# Altium integrated library Linear Technology Power Management Switching Regulator LTC1174-LTC3901.IntLib: 2647 symbols (part 5 of 364)
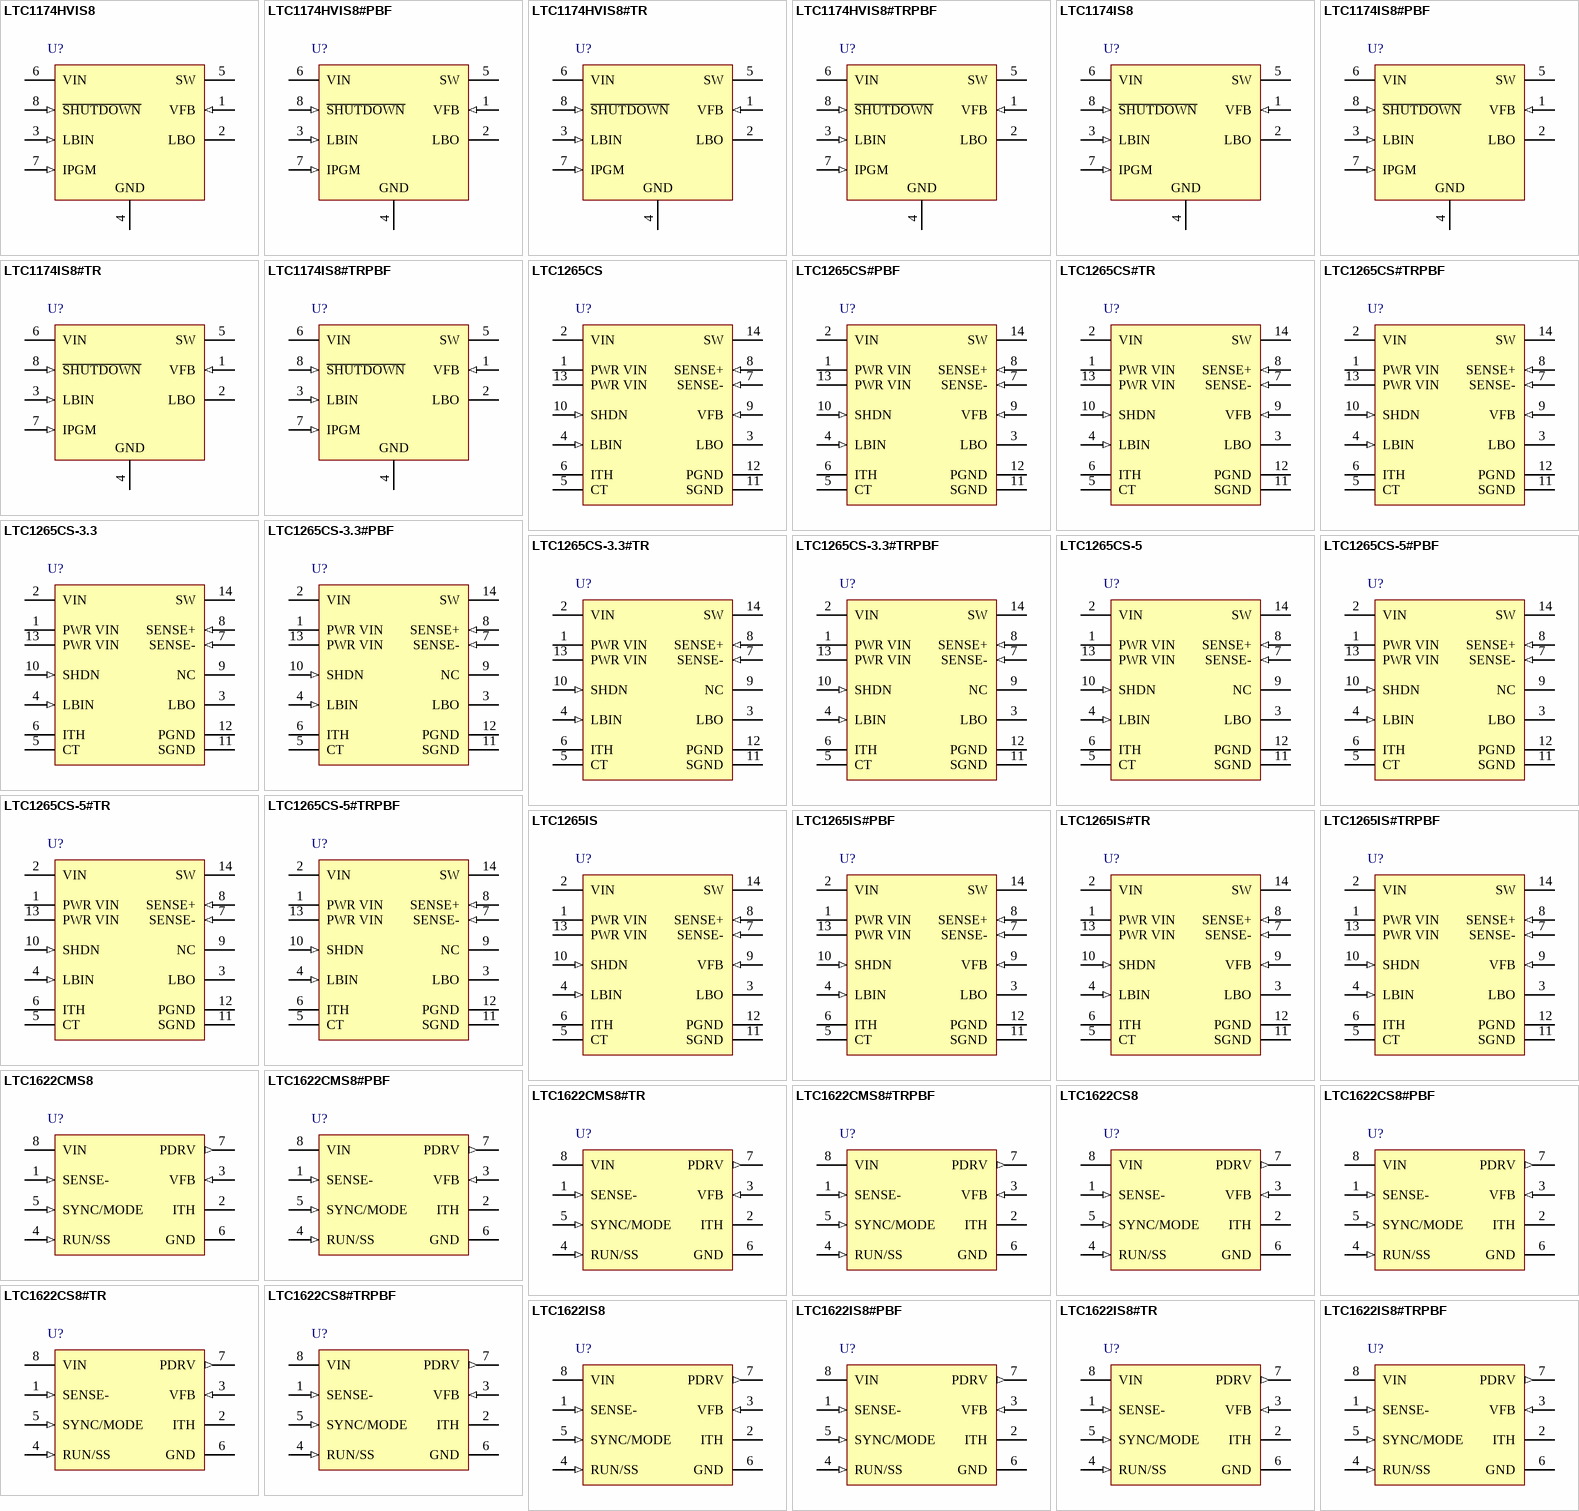
[diagram p118: symbols LTC1174HVIS8 to LTC1622IS8#TRPBF]

## LTC1265IS#TRPBF
designator U?
1.2 A, High Efficiency Step-Down DC/DC Converter, 14-pin SOIC (S-14), -40 to 85 degC, Pb-Free, Tape and Reel; Manufacturer: Linear Technology; PartNumber: LTC1265IS#TRPBF; Number of Outputs: 1; DatasheetVersion: Rev. B; PackageVersion: Rev. G, 03/2012; PackageReference: S-14; PackageDescription: 14-Pin Plastic Small Outline, Body 8.65 x 3.9 mm, Pitch 1.27 mm; Supplier 1: Digi-Key; Supplier Part Number 1: LTC1265IS#TRPBF-ND; Packing: Tape and Reel; RoHS: TRUE; Mounting Technology: Surface Mount; ComponentLink1Description: Manufacturer URL; ComponentLink1URL: http://www.linear.com/; ComponentLink2Description: Datasheet; ComponentLink2URL: http://cds.linear.com/docs/en/datasheet/126535fb.pdf; ComponentLink3Description: Package Specification; ComponentLink3URL: http://cds.linear.com/docs/en/packaging/05081610_G_S14.pdf
footprint LT-S-14_N (SOIC, 14-Leads, Body 8.7x4mm, Pitch 1.27mm, IPC Medium Density)
footprint LT-S-14_L (SOIC, 14-Leads, Body 8.7x4mm, Pitch 1.27mm, IPC High Density)
footprint LT-S-14_M (SOIC, 14-Leads, Body 8.7x4mm, Pitch 1.27mm, IPC Low Density)
pins: 1 PWR VIN (power) "Supply for the Power MOSFET and its Driver. Must decouple this pin properly to ground. Must always tie Pins 1 and 13 together.", 2 VIN (power) "Main Supply for All the Control Circuitry in the LTC1265.", 3 LBO (hiz) "Open-Drain Output of the Low-Battery Comparator. This pin will sink current when Pin 4 (LBIN) goes below 1.25V. During shutdown, this pin is high impedance.", 4 LBIN (in) "The (-) Input of the Low-Battery Comparator. The (+) input is connected to a reference voltage of 1.25V.", 5 CT "External capacitor CT from Pin 5 to ground sets the switch off time. The operating frequency is dependent on the input voltage and CT.", 6 ITH "Feedback Amplifier Decoupling Point. The current comparator threshold is proportional to Pin 6 voltage.", 7 SENSE- (in) "Connect to the (-) input of the current comparator. For LTC1265-3.3 and LTC1265-5, it also connects to an internal resistive divider which sets the output voltage.", 8 SENSE+ (in) "The (+) Pin to the Current Comparator. A built-in offset between Pins 7 and 8 in conjunction with RSENSE sets the current trip threshold.", 9 VFB (in) "For the LTC1265 adjustable version, this pin serves as the feedback pin from an external resistive divider used to set the output voltage. On the LTC1265-3.3 and LTC1265-5 versions, this pin is not used.", 10 SHDN (in) "Pulling this pin HIGH keeps the internal switch off and puts the LTC1265 in micropower shutdown. Do not float this pin.", 11 SGND (power) "Small-Signal Ground. Must be routed separately from other grounds to the (-) terminal of COUT.", 12 PGND (power) "Switch Driver Ground. Connects to the (-) terminal of CIN. Anode of the Schottky diode must be connected close to this pin.", 13 PWR VIN (power) "Supply for the Power MOSFET and its Driver. Must decouple this pin properly to ground. Must always tie Pins 1 and 13 together.", 14 SW (power) "Drain of the P-Channel MOSFET Switch. Cathode of the Schottky diode must be connected close to this pin."

## LTC1622CMS8
designator U?
Low Input Voltage Current Mode Step-Down DC/DC Controller, 8-pin SOP (MS8-8), 0 to 70 degC; Manufacturer: Linear Technology; PartNumber: LTC1622CMS8; Number of Outputs: 1; PackageVersion: Rev. G, 05/2013; PackageReference: MS8; PackageDescription: 8-Pin Plastic MSOP, Body 3 x 3 mm, Pitch 0.65 mm; Supplier 1: Digi-Key; Supplier Part Number 1: LTC1622CMS8-ND; Supplier 2: Newark; Supplier Part Number 2: 56M2661; RoHS: FALSE; Mounting Technology: Surface Mount; ComponentLink1Description: Manufacturer URL; ComponentLink1URL: http://www.linear.com/; ComponentLink2Description: Datasheet; ComponentLink2URL: http://cds.linear.com/docs/en/datasheet/1622fs.pdf; ComponentLink3Description: Package Specification; ComponentLink3URL: http://cds.linear.com/docs/en/packaging/05081660_G_MS8.pdf
footprint LT-MS8_N (SOP, 8-Leads, Body 3.1x3.1mm, Pitch 0.65mm, IPC Medium Density)
footprint LT-MS8_L (SOP, 8-Leads, Body 3.1x3.1mm, Pitch 0.65mm, IPC High Density)
footprint LT-MS8_M (SOP, 8-Leads, Body 3.1x3.1mm, Pitch 0.65mm, IPC Low Density)
pins: 1 SENSE- (in) "The Negative Input to the Current Comparator.", 2 ITH "Error Amplifier Compensation Point. The current comparator threshold increases with this control voltage. Nominal voltage range for this pin is 0V to 1.2V.", 3 VFB (in) "Receives the feedback voltage from an external resistive divider across the output capacitor.", 4 RUN/SS (in), 5 SYNC/MODE (in), 6 GND (power) "Ground Pin.", 7 PDRV (out) "Gate Drive for the External P-Channel MOSFET. This pin swings from 0V to VIN.", 8 VIN (power) "Main Supply Pin. Must be closely decoupled to ground Pin 6."

## LTC1622CMS8#PBF
designator U?
Low Input Voltage Current Mode Step-Down DC/DC Controller, 8-pin SOP (MS8-8), 0 to 70 degC, Pb-Free; Manufacturer: Linear Technology; PartNumber: LTC1622CMS8#PBF; Number of Outputs: 1; PackageVersion: Rev. G, 05/2013; PackageReference: MS8; PackageDescription: 8-Pin Plastic MSOP, Body 3 x 3 mm, Pitch 0.65 mm; Supplier 1: Digi-Key; Supplier Part Number 1: LTC1622CMS8#PBF-ND; Supplier 2: Farnell; Supplier Part Number 2: 2294991; Supplier 3: Newark; Supplier Part Number 3: 56M2662; RoHS: TRUE; Mounting Technology: Surface Mount; ComponentLink1Description: Manufacturer URL; ComponentLink1URL: http://www.linear.com/; ComponentLink2Description: Datasheet; ComponentLink2URL: http://cds.linear.com/docs/en/datasheet/1622fs.pdf; ComponentLink3Description: Package Specification; ComponentLink3URL: http://cds.linear.com/docs/en/packaging/05081660_G_MS8.pdf
footprint LT-MS8_N (SOP, 8-Leads, Body 3.1x3.1mm, Pitch 0.65mm, IPC Medium Density)
footprint LT-MS8_L (SOP, 8-Leads, Body 3.1x3.1mm, Pitch 0.65mm, IPC High Density)
footprint LT-MS8_M (SOP, 8-Leads, Body 3.1x3.1mm, Pitch 0.65mm, IPC Low Density)
pins: 1 SENSE- (in) "The Negative Input to the Current Comparator.", 2 ITH "Error Amplifier Compensation Point. The current comparator threshold increases with this control voltage. Nominal voltage range for this pin is 0V to 1.2V.", 3 VFB (in) "Receives the feedback voltage from an external resistive divider across the output capacitor.", 4 RUN/SS (in), 5 SYNC/MODE (in), 6 GND (power) "Ground Pin.", 7 PDRV (out) "Gate Drive for the External P-Channel MOSFET. This pin swings from 0V to VIN.", 8 VIN (power) "Main Supply Pin. Must be closely decoupled to ground Pin 6."

## LTC1622CMS8#TR
designator U?
Low Input Voltage Current Mode Step-Down DC/DC Controller, 8-pin SOP (MS8-8), 0 to 70 degC, Tape and Reel; Manufacturer: Linear Technology; PartNumber: LTC1622CMS8#TR; Number of Outputs: 1; PackageVersion: Rev. G, 05/2013; PackageReference: MS8; PackageDescription: 8-Pin Plastic MSOP, Body 3 x 3 mm, Pitch 0.65 mm; Supplier 1: Digi-Key; Supplier Part Number 1: LTC1622CMS8#TR-ND; Packing: Tape and Reel; RoHS: FALSE; Mounting Technology: Surface Mount; ComponentLink1Description: Manufacturer URL; ComponentLink1URL: http://www.linear.com/; ComponentLink2Description: Datasheet; ComponentLink2URL: http://cds.linear.com/docs/en/datasheet/1622fs.pdf; ComponentLink3Description: Package Specification; ComponentLink3URL: http://cds.linear.com/docs/en/packaging/05081660_G_MS8.pdf
footprint LT-MS8_N (SOP, 8-Leads, Body 3.1x3.1mm, Pitch 0.65mm, IPC Medium Density)
footprint LT-MS8_L (SOP, 8-Leads, Body 3.1x3.1mm, Pitch 0.65mm, IPC High Density)
footprint LT-MS8_M (SOP, 8-Leads, Body 3.1x3.1mm, Pitch 0.65mm, IPC Low Density)
pins: 1 SENSE- (in) "The Negative Input to the Current Comparator.", 2 ITH "Error Amplifier Compensation Point. The current comparator threshold increases with this control voltage. Nominal voltage range for this pin is 0V to 1.2V.", 3 VFB (in) "Receives the feedback voltage from an external resistive divider across the output capacitor.", 4 RUN/SS (in), 5 SYNC/MODE (in), 6 GND (power) "Ground Pin.", 7 PDRV (out) "Gate Drive for the External P-Channel MOSFET. This pin swings from 0V to VIN.", 8 VIN (power) "Main Supply Pin. Must be closely decoupled to ground Pin 6."

## LTC1622CMS8#TRPBF
designator U?
Low Input Voltage Current Mode Step-Down DC/DC Controller, 8-pin SOP (MS8-8), 0 to 70 degC, Pb-Free, Tape and Reel; Manufacturer: Linear Technology; PartNumber: LTC1622CMS8#TRPBF; Number of Outputs: 1; PackageVersion: Rev. G, 05/2013; PackageReference: MS8; PackageDescription: 8-Pin Plastic MSOP, Body 3 x 3 mm, Pitch 0.65 mm; Supplier 1: Digi-Key; Supplier Part Number 1: LTC1622CMS8#TRPBF-ND; Supplier 2: Newark; Supplier Part Number 2: 56M2664; Packing: Tape and Reel; RoHS: TRUE; Mounting Technology: Surface Mount; ComponentLink1Description: Manufacturer URL; ComponentLink1URL: http://www.linear.com/; ComponentLink2Description: Datasheet; ComponentLink2URL: http://cds.linear.com/docs/en/datasheet/1622fs.pdf; ComponentLink3Description: Package Specification; ComponentLink3URL: http://cds.linear.com/docs/en/packaging/05081660_G_MS8.pdf
footprint LT-MS8_N (SOP, 8-Leads, Body 3.1x3.1mm, Pitch 0.65mm, IPC Medium Density)
footprint LT-MS8_L (SOP, 8-Leads, Body 3.1x3.1mm, Pitch 0.65mm, IPC High Density)
footprint LT-MS8_M (SOP, 8-Leads, Body 3.1x3.1mm, Pitch 0.65mm, IPC Low Density)
pins: 1 SENSE- (in) "The Negative Input to the Current Comparator.", 2 ITH "Error Amplifier Compensation Point. The current comparator threshold increases with this control voltage. Nominal voltage range for this pin is 0V to 1.2V.", 3 VFB (in) "Receives the feedback voltage from an external resistive divider across the output capacitor.", 4 RUN/SS (in), 5 SYNC/MODE (in), 6 GND (power) "Ground Pin.", 7 PDRV (out) "Gate Drive for the External P-Channel MOSFET. This pin swings from 0V to VIN.", 8 VIN (power) "Main Supply Pin. Must be closely decoupled to ground Pin 6."

## LTC1622CS8
designator U?
Low Input Voltage Current Mode Step-Down DC/DC Controller, 8-pin SOIC (S8-8), 0 to 70 degC; Manufacturer: Linear Technology; PartNumber: LTC1622CS8; Number of Outputs: 1; PackageVersion: Rev. G, 03/2012; PackageReference: S8-8; PackageDescription: 8-Pin Plastic Small Outline (Narrow .150 Inch), Body 4.9 x 3.9 mm, Pitch 1.27 mm; Supplier 1: Digi-Key; Supplier Part Number 1: LTC1622CS8-ND; RoHS: FALSE; Mounting Technology: Surface Mount; ComponentLink1Description: Manufacturer URL; ComponentLink1URL: http://www.linear.com/; ComponentLink2Description: Datasheet; ComponentLink2URL: http://cds.linear.com/docs/en/datasheet/1622fs.pdf; ComponentLink3Description: Package Specification; ComponentLink3URL: http://cds.linear.com/docs/en/packaging/05081610_G_SO8.pdf
footprint LT-S8-8_N (SOIC, 8-Leads, Body 5x4mm, Pitch 1.27mm, IPC Medium Density)
footprint LT-S8-8_L (SOIC, 8-Leads, Body 5x4mm, Pitch 1.27mm, IPC High Density)
footprint LT-S8-8_M (SOIC, 8-Leads, Body 5x4mm, Pitch 1.27mm, IPC Low Density)
pins: 1 SENSE- (in) "The Negative Input to the Current Comparator.", 2 ITH "Error Amplifier Compensation Point. The current comparator threshold increases with this control voltage. Nominal voltage range for this pin is 0V to 1.2V.", 3 VFB (in) "Receives the feedback voltage from an external resistive divider across the output capacitor.", 4 RUN/SS (in), 5 SYNC/MODE (in), 6 GND (power) "Ground Pin.", 7 PDRV (out) "Gate Drive for the External P-Channel MOSFET. This pin swings from 0V to VIN.", 8 VIN (power) "Main Supply Pin. Must be closely decoupled to ground Pin 6."

## LTC1622CS8#PBF
designator U?
Low Input Voltage Current Mode Step-Down DC/DC Controller, 8-pin SOIC (S8-8), 0 to 70 degC, Pb-Free; Manufacturer: Linear Technology; PartNumber: LTC1622CS8#PBF; Number of Outputs: 1; PackageVersion: Rev. G, 03/2012; PackageReference: S8-8; PackageDescription: 8-Pin Plastic Small Outline (Narrow .150 Inch), Body 4.9 x 3.9 mm, Pitch 1.27 mm; Supplier 1: Digi-Key; Supplier Part Number 1: LTC1622CS8#PBF-ND; Supplier 2: Farnell; Supplier Part Number 2: 1273888; RoHS: TRUE; Mounting Technology: Surface Mount; ComponentLink1Description: Manufacturer URL; ComponentLink1URL: http://www.linear.com/; ComponentLink2Description: Datasheet; ComponentLink2URL: http://cds.linear.com/docs/en/datasheet/1622fs.pdf; ComponentLink3Description: Package Specification; ComponentLink3URL: http://cds.linear.com/docs/en/packaging/05081610_G_SO8.pdf
footprint LT-S8-8_N (SOIC, 8-Leads, Body 5x4mm, Pitch 1.27mm, IPC Medium Density)
footprint LT-S8-8_L (SOIC, 8-Leads, Body 5x4mm, Pitch 1.27mm, IPC High Density)
footprint LT-S8-8_M (SOIC, 8-Leads, Body 5x4mm, Pitch 1.27mm, IPC Low Density)
pins: 1 SENSE- (in) "The Negative Input to the Current Comparator.", 2 ITH "Error Amplifier Compensation Point. The current comparator threshold increases with this control voltage. Nominal voltage range for this pin is 0V to 1.2V.", 3 VFB (in) "Receives the feedback voltage from an external resistive divider across the output capacitor.", 4 RUN/SS (in), 5 SYNC/MODE (in), 6 GND (power) "Ground Pin.", 7 PDRV (out) "Gate Drive for the External P-Channel MOSFET. This pin swings from 0V to VIN.", 8 VIN (power) "Main Supply Pin. Must be closely decoupled to ground Pin 6."

## LTC1622CS8#TR
designator U?
Low Input Voltage Current Mode Step-Down DC/DC Controller, 8-pin SOIC (S8-8), 0 to 70 degC, Tape and Reel; Manufacturer: Linear Technology; PartNumber: LTC1622CS8#TR; Number of Outputs: 1; PackageVersion: Rev. G, 03/2012; PackageReference: S8-8; PackageDescription: 8-Pin Plastic Small Outline (Narrow .150 Inch), Body 4.9 x 3.9 mm, Pitch 1.27 mm; Supplier 1: Digi-Key; Supplier Part Number 1: LTC1622CS8TR-ND; Packing: Tape and Reel; RoHS: FALSE; Mounting Technology: Surface Mount; ComponentLink1Description: Manufacturer URL; ComponentLink1URL: http://www.linear.com/; ComponentLink2Description: Datasheet; ComponentLink2URL: http://cds.linear.com/docs/en/datasheet/1622fs.pdf; ComponentLink3Description: Package Specification; ComponentLink3URL: http://cds.linear.com/docs/en/packaging/05081610_G_SO8.pdf
footprint LT-S8-8_N (SOIC, 8-Leads, Body 5x4mm, Pitch 1.27mm, IPC Medium Density)
footprint LT-S8-8_L (SOIC, 8-Leads, Body 5x4mm, Pitch 1.27mm, IPC High Density)
footprint LT-S8-8_M (SOIC, 8-Leads, Body 5x4mm, Pitch 1.27mm, IPC Low Density)
pins: 1 SENSE- (in) "The Negative Input to the Current Comparator.", 2 ITH "Error Amplifier Compensation Point. The current comparator threshold increases with this control voltage. Nominal voltage range for this pin is 0V to 1.2V.", 3 VFB (in) "Receives the feedback voltage from an external resistive divider across the output capacitor.", 4 RUN/SS (in), 5 SYNC/MODE (in), 6 GND (power) "Ground Pin.", 7 PDRV (out) "Gate Drive for the External P-Channel MOSFET. This pin swings from 0V to VIN.", 8 VIN (power) "Main Supply Pin. Must be closely decoupled to ground Pin 6."

## LTC1622CS8#TRPBF
designator U?
Low Input Voltage Current Mode Step-Down DC/DC Controller, 8-pin SOIC (S8-8), 0 to 70 degC, Pb-Free, Tape and Reel; Manufacturer: Linear Technology; PartNumber: LTC1622CS8#TRPBF; Number of Outputs: 1; PackageVersion: Rev. G, 03/2012; PackageReference: S8-8; PackageDescription: 8-Pin Plastic Small Outline (Narrow .150 Inch), Body 4.9 x 3.9 mm, Pitch 1.27 mm; Supplier 1: Digi-Key; Supplier Part Number 1: LTC1622CS8#TRPBF-ND; Packing: Tape and Reel; RoHS: TRUE; Mounting Technology: Surface Mount; ComponentLink1Description: Manufacturer URL; ComponentLink1URL: http://www.linear.com/; ComponentLink2Description: Datasheet; ComponentLink2URL: http://cds.linear.com/docs/en/datasheet/1622fs.pdf; ComponentLink3Description: Package Specification; ComponentLink3URL: http://cds.linear.com/docs/en/packaging/05081610_G_SO8.pdf
footprint LT-S8-8_N (SOIC, 8-Leads, Body 5x4mm, Pitch 1.27mm, IPC Medium Density)
footprint LT-S8-8_L (SOIC, 8-Leads, Body 5x4mm, Pitch 1.27mm, IPC High Density)
footprint LT-S8-8_M (SOIC, 8-Leads, Body 5x4mm, Pitch 1.27mm, IPC Low Density)
pins: 1 SENSE- (in) "The Negative Input to the Current Comparator.", 2 ITH "Error Amplifier Compensation Point. The current comparator threshold increases with this control voltage. Nominal voltage range for this pin is 0V to 1.2V.", 3 VFB (in) "Receives the feedback voltage from an external resistive divider across the output capacitor.", 4 RUN/SS (in), 5 SYNC/MODE (in), 6 GND (power) "Ground Pin.", 7 PDRV (out) "Gate Drive for the External P-Channel MOSFET. This pin swings from 0V to VIN.", 8 VIN (power) "Main Supply Pin. Must be closely decoupled to ground Pin 6."

## LTC1622IS8
designator U?
Low Input Voltage Current Mode Step-Down DC/DC Controller, 8-pin SOIC (S8-8), -45 to 85 degC; Manufacturer: Linear Technology; PartNumber: LTC1622IS8; Number of Outputs: 1; PackageVersion: Rev. G, 03/2012; PackageReference: S8-8; PackageDescription: 8-Pin Plastic Small Outline (Narrow .150 Inch), Body 4.9 x 3.9 mm, Pitch 1.27 mm; Supplier 1: Digi-Key; Supplier Part Number 1: LTC1622IS8-ND; Supplier 2: Newark; Supplier Part Number 2: 56M2669; RoHS: FALSE; Mounting Technology: Surface Mount; ComponentLink1Description: Manufacturer URL; ComponentLink1URL: http://www.linear.com/; ComponentLink2Description: Datasheet; ComponentLink2URL: http://cds.linear.com/docs/en/datasheet/1622fs.pdf; ComponentLink3Description: Package Specification; ComponentLink3URL: http://cds.linear.com/docs/en/packaging/05081610_G_SO8.pdf
footprint LT-S8-8_N (SOIC, 8-Leads, Body 5x4mm, Pitch 1.27mm, IPC Medium Density)
footprint LT-S8-8_L (SOIC, 8-Leads, Body 5x4mm, Pitch 1.27mm, IPC High Density)
footprint LT-S8-8_M (SOIC, 8-Leads, Body 5x4mm, Pitch 1.27mm, IPC Low Density)
pins: 1 SENSE- (in) "The Negative Input to the Current Comparator.", 2 ITH "Error Amplifier Compensation Point. The current comparator threshold increases with this control voltage. Nominal voltage range for this pin is 0V to 1.2V.", 3 VFB (in) "Receives the feedback voltage from an external resistive divider across the output capacitor.", 4 RUN/SS (in), 5 SYNC/MODE (in), 6 GND (power) "Ground Pin.", 7 PDRV (out) "Gate Drive for the External P-Channel MOSFET. This pin swings from 0V to VIN.", 8 VIN (power) "Main Supply Pin. Must be closely decoupled to ground Pin 6."

## LTC1622IS8#PBF
designator U?
Low Input Voltage Current Mode Step-Down DC/DC Controller, 8-pin SOIC (S8-8), -45 to 85 degC, Pb-Free; Manufacturer: Linear Technology; PartNumber: LTC1622IS8#PBF; Number of Outputs: 1; PackageVersion: Rev. G, 03/2012; PackageReference: S8-8; PackageDescription: 8-Pin Plastic Small Outline (Narrow .150 Inch), Body 4.9 x 3.9 mm, Pitch 1.27 mm; Supplier 1: Digi-Key; Supplier Part Number 1: LTC1622IS8#PBF-ND; Supplier 2: Farnell; Supplier Part Number 2: 2294992; RoHS: TRUE; Mounting Technology: Surface Mount; ComponentLink1Description: Manufacturer URL; ComponentLink1URL: http://www.linear.com/; ComponentLink2Description: Datasheet; ComponentLink2URL: http://cds.linear.com/docs/en/datasheet/1622fs.pdf; ComponentLink3Description: Package Specification; ComponentLink3URL: http://cds.linear.com/docs/en/packaging/05081610_G_SO8.pdf
footprint LT-S8-8_N (SOIC, 8-Leads, Body 5x4mm, Pitch 1.27mm, IPC Medium Density)
footprint LT-S8-8_L (SOIC, 8-Leads, Body 5x4mm, Pitch 1.27mm, IPC High Density)
footprint LT-S8-8_M (SOIC, 8-Leads, Body 5x4mm, Pitch 1.27mm, IPC Low Density)
pins: 1 SENSE- (in) "The Negative Input to the Current Comparator.", 2 ITH "Error Amplifier Compensation Point. The current comparator threshold increases with this control voltage. Nominal voltage range for this pin is 0V to 1.2V.", 3 VFB (in) "Receives the feedback voltage from an external resistive divider across the output capacitor.", 4 RUN/SS (in), 5 SYNC/MODE (in), 6 GND (power) "Ground Pin.", 7 PDRV (out) "Gate Drive for the External P-Channel MOSFET. This pin swings from 0V to VIN.", 8 VIN (power) "Main Supply Pin. Must be closely decoupled to ground Pin 6."

## LTC1622IS8#TR
designator U?
Low Input Voltage Current Mode Step-Down DC/DC Controller, 8-pin SOIC (S8-8), -45 to 85 degC, Tape and Reel; Manufacturer: Linear Technology; PartNumber: LTC1622IS8#TR; Number of Outputs: 1; PackageVersion: Rev. G, 03/2012; PackageReference: S8-8; PackageDescription: 8-Pin Plastic Small Outline (Narrow .150 Inch), Body 4.9 x 3.9 mm, Pitch 1.27 mm; Supplier 1: Digi-Key; Supplier Part Number 1: LTC1622IS8#TR-ND; Packing: Tape and Reel; RoHS: FALSE; Mounting Technology: Surface Mount; ComponentLink1Description: Manufacturer URL; ComponentLink1URL: http://www.linear.com/; ComponentLink2Description: Datasheet; ComponentLink2URL: http://cds.linear.com/docs/en/datasheet/1622fs.pdf; ComponentLink3Description: Package Specification; ComponentLink3URL: http://cds.linear.com/docs/en/packaging/05081610_G_SO8.pdf
footprint LT-S8-8_N (SOIC, 8-Leads, Body 5x4mm, Pitch 1.27mm, IPC Medium Density)
footprint LT-S8-8_L (SOIC, 8-Leads, Body 5x4mm, Pitch 1.27mm, IPC High Density)
footprint LT-S8-8_M (SOIC, 8-Leads, Body 5x4mm, Pitch 1.27mm, IPC Low Density)
pins: 1 SENSE- (in) "The Negative Input to the Current Comparator.", 2 ITH "Error Amplifier Compensation Point. The current comparator threshold increases with this control voltage. Nominal voltage range for this pin is 0V to 1.2V.", 3 VFB (in) "Receives the feedback voltage from an external resistive divider across the output capacitor.", 4 RUN/SS (in), 5 SYNC/MODE (in), 6 GND (power) "Ground Pin.", 7 PDRV (out) "Gate Drive for the External P-Channel MOSFET. This pin swings from 0V to VIN.", 8 VIN (power) "Main Supply Pin. Must be closely decoupled to ground Pin 6."

## LTC1622IS8#TRPBF
designator U?
Low Input Voltage Current Mode Step-Down DC/DC Controller, 8-pin SOIC (S8-8), -45 to 85 degC, Pb-Free, Tape and Reel; Manufacturer: Linear Technology; PartNumber: LTC1622IS8#TRPBF; Number of Outputs: 1; PackageVersion: Rev. G, 03/2012; PackageReference: S8-8; PackageDescription: 8-Pin Plastic Small Outline (Narrow .150 Inch), Body 4.9 x 3.9 mm, Pitch 1.27 mm; Supplier 1: Digi-Key; Supplier Part Number 1: LTC1622IS8#TRPBF-ND; Supplier 2: Newark; Supplier Part Number 2: 56M2672; Packing: Tape and Reel; RoHS: TRUE; Mounting Technology: Surface Mount; ComponentLink1Description: Manufacturer URL; ComponentLink1URL: http://www.linear.com/; ComponentLink2Description: Datasheet; ComponentLink2URL: http://cds.linear.com/docs/en/datasheet/1622fs.pdf; ComponentLink3Description: Package Specification; ComponentLink3URL: http://cds.linear.com/docs/en/packaging/05081610_G_SO8.pdf
footprint LT-S8-8_N (SOIC, 8-Leads, Body 5x4mm, Pitch 1.27mm, IPC Medium Density)
footprint LT-S8-8_L (SOIC, 8-Leads, Body 5x4mm, Pitch 1.27mm, IPC High Density)
footprint LT-S8-8_M (SOIC, 8-Leads, Body 5x4mm, Pitch 1.27mm, IPC Low Density)
pins: 1 SENSE- (in) "The Negative Input to the Current Comparator.", 2 ITH "Error Amplifier Compensation Point. The current comparator threshold increases with this control voltage. Nominal voltage range for this pin is 0V to 1.2V.", 3 VFB (in) "Receives the feedback voltage from an external resistive divider across the output capacitor.", 4 RUN/SS (in), 5 SYNC/MODE (in), 6 GND (power) "Ground Pin.", 7 PDRV (out) "Gate Drive for the External P-Channel MOSFET. This pin swings from 0V to VIN.", 8 VIN (power) "Main Supply Pin. Must be closely decoupled to ground Pin 6."

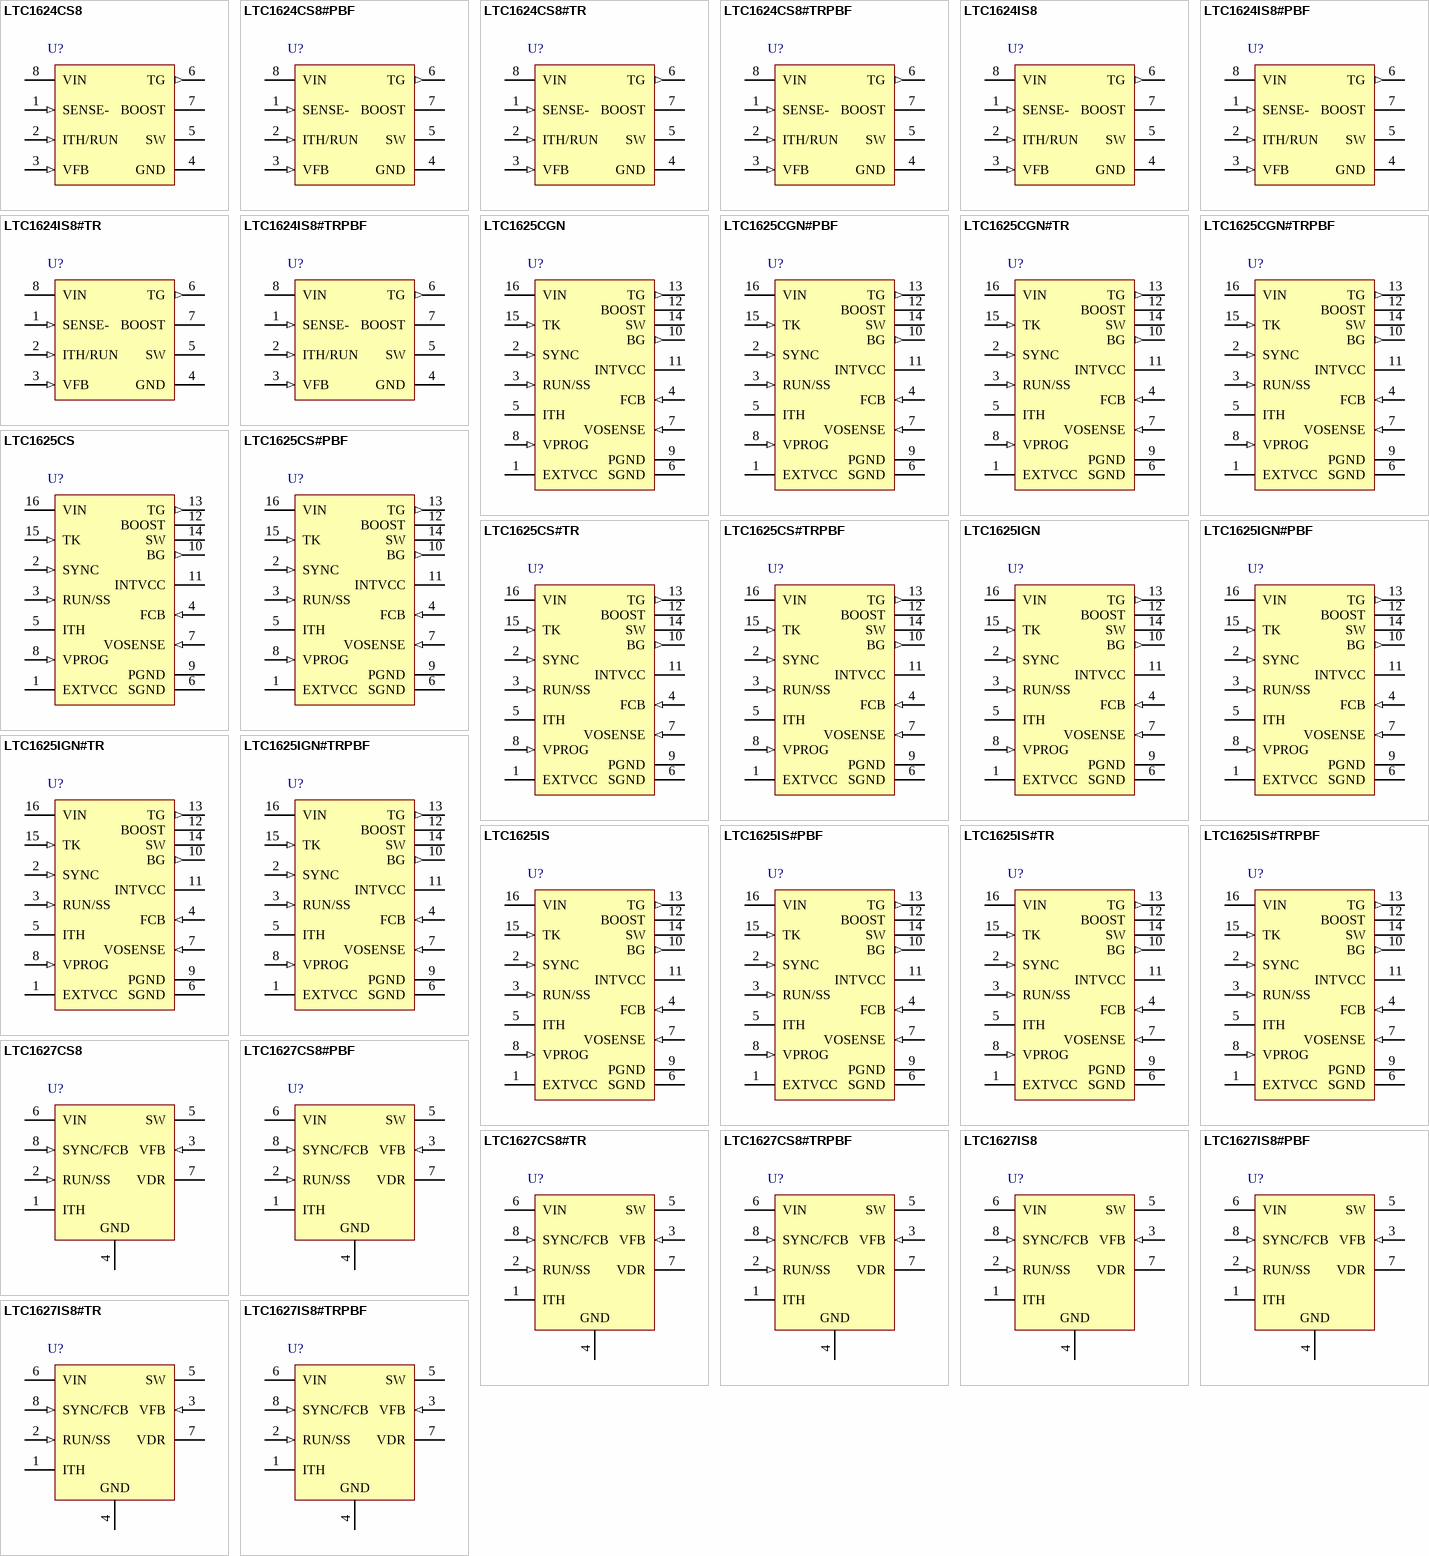
[diagram p2: symbols LTC1624CS8 to LTC1627IS8#TRPBF]

## LTC1624CS8
designator U?
High Efficiency N-Channel Switching Regulator Controller, 8-pin SOIC (S8-8), 0 to 70 degC; Manufacturer: Linear Technology; PartNumber: LTC1624CS8; Number of Outputs: 1; PackageVersion: Rev. G, 03/2012; PackageReference: S8-8; PackageDescription: 8-Pin Plastic Small Outline (Narrow .150 Inch), Body 4.9 x 3.9 mm, Pitch 1.27 mm; Supplier 1: Digi-Key; Supplier Part Number 1: LTC1624CS8-ND; Supplier 2: Newark; Supplier Part Number 2: 56M2685; RoHS: FALSE; Mounting Technology: Surface Mount; ComponentLink1Description: Manufacturer URL; ComponentLink1URL: http://www.linear.com/; ComponentLink2Description: Datasheet; ComponentLink2URL: http://cds.linear.com/docs/en/datasheet/1624f.pdf; ComponentLink3Description: Package Specification; ComponentLink3URL: http://cds.linear.com/docs/en/packaging/05081610_G_SO8.pdf
footprint LT-S8-8_N (SOIC, 8-Leads, Body 5x4mm, Pitch 1.27mm, IPC Medium Density)
footprint LT-S8-8_L (SOIC, 8-Leads, Body 5x4mm, Pitch 1.27mm, IPC High Density)
footprint LT-S8-8_M (SOIC, 8-Leads, Body 5x4mm, Pitch 1.27mm, IPC Low Density)
pins: 1 SENSE- (in) "Connects to the (-) input for the current comparator. Built-in offsets between the SENSE - and VIN pins in conjunction with RSENSE set the current trip thresholds. Do not pull this pin more than 15V below VIN or more than 0.(See Datasheet)", 2 ITH/RUN (in), 3 VFB (in) "Receives the feedback voltage from an external resistive divider across the output.", 4 GND (power) "Ground. Connect to the (-) terminal of COUT, the Schottky diode and the (-) terminal of CIN.", 5 SW "Switch Node Connection to Inductor. In stepdown applications the voltage swing at this pin is from a Schottky diode (external) voltage drop below ground to VIN.", 6 TG (out) "High Current Gate Drive for Top N-Channel MOSFET. This is the output of a floating driver with a voltage swing equal to INTVCC superimposed on the switch node voltage SW.", 7 BOOST "Supply to Topside Floating Driver. The bootstrap capacitor CB is returned to this pin. Voltage swing at this pin is from INTVCC to VIN + INTVCC in stepdown applications. In non step-down topologies the voltage at this pin is (See Datasheet)", 8 VIN (power) "Main Supply Pin and the (+) Input to the Current Comparator. Must be closely decoupled to ground."

## LTC1624CS8#PBF
designator U?
High Efficiency N-Channel Switching Regulator Controller, 8-pin SOIC (S8-8), 0 to 70 degC, Pb-Free; Manufacturer: Linear Technology; PartNumber: LTC1624CS8#PBF; Number of Outputs: 1; PackageVersion: Rev. G, 03/2012; PackageReference: S8-8; PackageDescription: 8-Pin Plastic Small Outline (Narrow .150 Inch), Body 4.9 x 3.9 mm, Pitch 1.27 mm; Supplier 1: Digi-Key; Supplier Part Number 1: LTC1624CS8#PBF-ND; Supplier 2: Farnell; Supplier Part Number 2: 1273889; Supplier 3: Newark; Supplier Part Number 3: 56M2686; RoHS: TRUE; Mounting Technology: Surface Mount; ComponentLink1Description: Manufacturer URL; ComponentLink1URL: http://www.linear.com/; ComponentLink2Description: Datasheet; ComponentLink2URL: http://cds.linear.com/docs/en/datasheet/1624f.pdf; ComponentLink3Description: Package Specification; ComponentLink3URL: http://cds.linear.com/docs/en/packaging/05081610_G_SO8.pdf
footprint LT-S8-8_N (SOIC, 8-Leads, Body 5x4mm, Pitch 1.27mm, IPC Medium Density)
footprint LT-S8-8_L (SOIC, 8-Leads, Body 5x4mm, Pitch 1.27mm, IPC High Density)
footprint LT-S8-8_M (SOIC, 8-Leads, Body 5x4mm, Pitch 1.27mm, IPC Low Density)
pins: 1 SENSE- (in) "Connects to the (-) input for the current comparator. Built-in offsets between the SENSE - and VIN pins in conjunction with RSENSE set the current trip thresholds. Do not pull this pin more than 15V below VIN or more than 0.(See Datasheet)", 2 ITH/RUN (in), 3 VFB (in) "Receives the feedback voltage from an external resistive divider across the output.", 4 GND (power) "Ground. Connect to the (-) terminal of COUT, the Schottky diode and the (-) terminal of CIN.", 5 SW "Switch Node Connection to Inductor. In stepdown applications the voltage swing at this pin is from a Schottky diode (external) voltage drop below ground to VIN.", 6 TG (out) "High Current Gate Drive for Top N-Channel MOSFET. This is the output of a floating driver with a voltage swing equal to INTVCC superimposed on the switch node voltage SW.", 7 BOOST "Supply to Topside Floating Driver. The bootstrap capacitor CB is returned to this pin. Voltage swing at this pin is from INTVCC to VIN + INTVCC in stepdown applications. In non step-down topologies the voltage at this pin is (See Datasheet)", 8 VIN (power) "Main Supply Pin and the (+) Input to the Current Comparator. Must be closely decoupled to ground."

## LTC1624CS8#TR
designator U?
High Efficiency N-Channel Switching Regulator Controller, 8-pin SOIC (S8-8), 0 to 70 degC, Tape and Reel; Manufacturer: Linear Technology; PartNumber: LTC1624CS8#TR; Number of Outputs: 1; PackageVersion: Rev. G, 03/2012; PackageReference: S8-8; PackageDescription: 8-Pin Plastic Small Outline (Narrow .150 Inch), Body 4.9 x 3.9 mm, Pitch 1.27 mm; Supplier 1: Digi-Key; Supplier Part Number 1: LTC1624CS8#TR-ND; Supplier 2: Newark; Supplier Part Number 2: 56M2687; Packing: Tape and Reel; RoHS: FALSE; Mounting Technology: Surface Mount; ComponentLink1Description: Manufacturer URL; ComponentLink1URL: http://www.linear.com/; ComponentLink2Description: Datasheet; ComponentLink2URL: http://cds.linear.com/docs/en/datasheet/1624f.pdf; ComponentLink3Description: Package Specification; ComponentLink3URL: http://cds.linear.com/docs/en/packaging/05081610_G_SO8.pdf
footprint LT-S8-8_N (SOIC, 8-Leads, Body 5x4mm, Pitch 1.27mm, IPC Medium Density)
footprint LT-S8-8_L (SOIC, 8-Leads, Body 5x4mm, Pitch 1.27mm, IPC High Density)
footprint LT-S8-8_M (SOIC, 8-Leads, Body 5x4mm, Pitch 1.27mm, IPC Low Density)
pins: 1 SENSE- (in) "Connects to the (-) input for the current comparator. Built-in offsets between the SENSE - and VIN pins in conjunction with RSENSE set the current trip thresholds. Do not pull this pin more than 15V below VIN or more than 0.(See Datasheet)", 2 ITH/RUN (in), 3 VFB (in) "Receives the feedback voltage from an external resistive divider across the output.", 4 GND (power) "Ground. Connect to the (-) terminal of COUT, the Schottky diode and the (-) terminal of CIN.", 5 SW "Switch Node Connection to Inductor. In stepdown applications the voltage swing at this pin is from a Schottky diode (external) voltage drop below ground to VIN.", 6 TG (out) "High Current Gate Drive for Top N-Channel MOSFET. This is the output of a floating driver with a voltage swing equal to INTVCC superimposed on the switch node voltage SW.", 7 BOOST "Supply to Topside Floating Driver. The bootstrap capacitor CB is returned to this pin. Voltage swing at this pin is from INTVCC to VIN + INTVCC in stepdown applications. In non step-down topologies the voltage at this pin is (See Datasheet)", 8 VIN (power) "Main Supply Pin and the (+) Input to the Current Comparator. Must be closely decoupled to ground."

## LTC1624CS8#TRPBF
designator U?
High Efficiency N-Channel Switching Regulator Controller, 8-pin SOIC (S8-8), 0 to 70 degC, Pb-Free, Tape and Reel; Manufacturer: Linear Technology; PartNumber: LTC1624CS8#TRPBF; Number of Outputs: 1; PackageVersion: Rev. G, 03/2012; PackageReference: S8-8; PackageDescription: 8-Pin Plastic Small Outline (Narrow .150 Inch), Body 4.9 x 3.9 mm, Pitch 1.27 mm; Supplier 1: Digi-Key; Supplier Part Number 1: LTC1624CS8#TRPBF-ND; Supplier 2: Newark; Supplier Part Number 2: 56M2688; Packing: Tape and Reel; RoHS: TRUE; Mounting Technology: Surface Mount; ComponentLink1Description: Manufacturer URL; ComponentLink1URL: http://www.linear.com/; ComponentLink2Description: Datasheet; ComponentLink2URL: http://cds.linear.com/docs/en/datasheet/1624f.pdf; ComponentLink3Description: Package Specification; ComponentLink3URL: http://cds.linear.com/docs/en/packaging/05081610_G_SO8.pdf
footprint LT-S8-8_N (SOIC, 8-Leads, Body 5x4mm, Pitch 1.27mm, IPC Medium Density)
footprint LT-S8-8_L (SOIC, 8-Leads, Body 5x4mm, Pitch 1.27mm, IPC High Density)
footprint LT-S8-8_M (SOIC, 8-Leads, Body 5x4mm, Pitch 1.27mm, IPC Low Density)
pins: 1 SENSE- (in) "Connects to the (-) input for the current comparator. Built-in offsets between the SENSE - and VIN pins in conjunction with RSENSE set the current trip thresholds. Do not pull this pin more than 15V below VIN or more than 0.(See Datasheet)", 2 ITH/RUN (in), 3 VFB (in) "Receives the feedback voltage from an external resistive divider across the output.", 4 GND (power) "Ground. Connect to the (-) terminal of COUT, the Schottky diode and the (-) terminal of CIN.", 5 SW "Switch Node Connection to Inductor. In stepdown applications the voltage swing at this pin is from a Schottky diode (external) voltage drop below ground to VIN.", 6 TG (out) "High Current Gate Drive for Top N-Channel MOSFET. This is the output of a floating driver with a voltage swing equal to INTVCC superimposed on the switch node voltage SW.", 7 BOOST "Supply to Topside Floating Driver. The bootstrap capacitor CB is returned to this pin. Voltage swing at this pin is from INTVCC to VIN + INTVCC in stepdown applications. In non step-down topologies the voltage at this pin is (See Datasheet)", 8 VIN (power) "Main Supply Pin and the (+) Input to the Current Comparator. Must be closely decoupled to ground."

## LTC1624IS8
designator U?
High Efficiency N-Channel Switching Regulator Controller, 8-pin SOIC (S8-8), -40 to 85 degC; Manufacturer: Linear Technology; PartNumber: LTC1624IS8; Number of Outputs: 1; PackageVersion: Rev. G, 03/2012; PackageReference: S8-8; PackageDescription: 8-Pin Plastic Small Outline (Narrow .150 Inch), Body 4.9 x 3.9 mm, Pitch 1.27 mm; Supplier 1: Digi-Key; Supplier Part Number 1: LTC1624IS8-ND; Supplier 2: Newark; Supplier Part Number 2: 56M2689; RoHS: FALSE; Mounting Technology: Surface Mount; ComponentLink1Description: Manufacturer URL; ComponentLink1URL: http://www.linear.com/; ComponentLink2Description: Datasheet; ComponentLink2URL: http://cds.linear.com/docs/en/datasheet/1624f.pdf; ComponentLink3Description: Package Specification; ComponentLink3URL: http://cds.linear.com/docs/en/packaging/05081610_G_SO8.pdf
footprint LT-S8-8_N (SOIC, 8-Leads, Body 5x4mm, Pitch 1.27mm, IPC Medium Density)
footprint LT-S8-8_L (SOIC, 8-Leads, Body 5x4mm, Pitch 1.27mm, IPC High Density)
footprint LT-S8-8_M (SOIC, 8-Leads, Body 5x4mm, Pitch 1.27mm, IPC Low Density)
pins: 1 SENSE- (in) "Connects to the (-) input for the current comparator. Built-in offsets between the SENSE - and VIN pins in conjunction with RSENSE set the current trip thresholds. Do not pull this pin more than 15V below VIN or more than 0.(See Datasheet)", 2 ITH/RUN (in), 3 VFB (in) "Receives the feedback voltage from an external resistive divider across the output.", 4 GND (power) "Ground. Connect to the (-) terminal of COUT, the Schottky diode and the (-) terminal of CIN.", 5 SW "Switch Node Connection to Inductor. In stepdown applications the voltage swing at this pin is from a Schottky diode (external) voltage drop below ground to VIN.", 6 TG (out) "High Current Gate Drive for Top N-Channel MOSFET. This is the output of a floating driver with a voltage swing equal to INTVCC superimposed on the switch node voltage SW.", 7 BOOST "Supply to Topside Floating Driver. The bootstrap capacitor CB is returned to this pin. Voltage swing at this pin is from INTVCC to VIN + INTVCC in stepdown applications. In non step-down topologies the voltage at this pin is (See Datasheet)", 8 VIN (power) "Main Supply Pin and the (+) Input to the Current Comparator. Must be closely decoupled to ground."

## LTC1624IS8#PBF
designator U?
High Efficiency N-Channel Switching Regulator Controller, 8-pin SOIC (S8-8), -40 to 85 degC, Pb-Free; Manufacturer: Linear Technology; PartNumber: LTC1624IS8#PBF; Number of Outputs: 1; PackageVersion: Rev. G, 03/2012; PackageReference: S8-8; PackageDescription: 8-Pin Plastic Small Outline (Narrow .150 Inch), Body 4.9 x 3.9 mm, Pitch 1.27 mm; Supplier 1: Digi-Key; Supplier Part Number 1: LTC1624IS8#PBF-ND; Supplier 2: Farnell; Supplier Part Number 2: 1663651; Supplier 3: Newark; Supplier Part Number 3: 56M2690; RoHS: TRUE; Mounting Technology: Surface Mount; ComponentLink1Description: Manufacturer URL; ComponentLink1URL: http://www.linear.com/; ComponentLink2Description: Datasheet; ComponentLink2URL: http://cds.linear.com/docs/en/datasheet/1624f.pdf; ComponentLink3Description: Package Specification; ComponentLink3URL: http://cds.linear.com/docs/en/packaging/05081610_G_SO8.pdf
footprint LT-S8-8_N (SOIC, 8-Leads, Body 5x4mm, Pitch 1.27mm, IPC Medium Density)
footprint LT-S8-8_L (SOIC, 8-Leads, Body 5x4mm, Pitch 1.27mm, IPC High Density)
footprint LT-S8-8_M (SOIC, 8-Leads, Body 5x4mm, Pitch 1.27mm, IPC Low Density)
pins: 1 SENSE- (in) "Connects to the (-) input for the current comparator. Built-in offsets between the SENSE - and VIN pins in conjunction with RSENSE set the current trip thresholds. Do not pull this pin more than 15V below VIN or more than 0.(See Datasheet)", 2 ITH/RUN (in), 3 VFB (in) "Receives the feedback voltage from an external resistive divider across the output.", 4 GND (power) "Ground. Connect to the (-) terminal of COUT, the Schottky diode and the (-) terminal of CIN.", 5 SW "Switch Node Connection to Inductor. In stepdown applications the voltage swing at this pin is from a Schottky diode (external) voltage drop below ground to VIN.", 6 TG (out) "High Current Gate Drive for Top N-Channel MOSFET. This is the output of a floating driver with a voltage swing equal to INTVCC superimposed on the switch node voltage SW.", 7 BOOST "Supply to Topside Floating Driver. The bootstrap capacitor CB is returned to this pin. Voltage swing at this pin is from INTVCC to VIN + INTVCC in stepdown applications. In non step-down topologies the voltage at this pin is (See Datasheet)", 8 VIN (power) "Main Supply Pin and the (+) Input to the Current Comparator. Must be closely decoupled to ground."

## LTC1624IS8#TR
designator U?
High Efficiency N-Channel Switching Regulator Controller, 8-pin SOIC (S8-8), -40 to 85 degC, Tape and Reel; Manufacturer: Linear Technology; PartNumber: LTC1624IS8#TR; Number of Outputs: 1; PackageVersion: Rev. G, 03/2012; PackageReference: S8-8; PackageDescription: 8-Pin Plastic Small Outline (Narrow .150 Inch), Body 4.9 x 3.9 mm, Pitch 1.27 mm; Supplier 1: Digi-Key; Supplier Part Number 1: LTC1624IS8#TR-ND; Packing: Tape and Reel; RoHS: FALSE; Mounting Technology: Surface Mount; ComponentLink1Description: Manufacturer URL; ComponentLink1URL: http://www.linear.com/; ComponentLink2Description: Datasheet; ComponentLink2URL: http://cds.linear.com/docs/en/datasheet/1624f.pdf; ComponentLink3Description: Package Specification; ComponentLink3URL: http://cds.linear.com/docs/en/packaging/05081610_G_SO8.pdf
footprint LT-S8-8_N (SOIC, 8-Leads, Body 5x4mm, Pitch 1.27mm, IPC Medium Density)
footprint LT-S8-8_L (SOIC, 8-Leads, Body 5x4mm, Pitch 1.27mm, IPC High Density)
footprint LT-S8-8_M (SOIC, 8-Leads, Body 5x4mm, Pitch 1.27mm, IPC Low Density)
pins: 1 SENSE- (in) "Connects to the (-) input for the current comparator. Built-in offsets between the SENSE - and VIN pins in conjunction with RSENSE set the current trip thresholds. Do not pull this pin more than 15V below VIN or more than 0.(See Datasheet)", 2 ITH/RUN (in), 3 VFB (in) "Receives the feedback voltage from an external resistive divider across the output.", 4 GND (power) "Ground. Connect to the (-) terminal of COUT, the Schottky diode and the (-) terminal of CIN.", 5 SW "Switch Node Connection to Inductor. In stepdown applications the voltage swing at this pin is from a Schottky diode (external) voltage drop below ground to VIN.", 6 TG (out) "High Current Gate Drive for Top N-Channel MOSFET. This is the output of a floating driver with a voltage swing equal to INTVCC superimposed on the switch node voltage SW.", 7 BOOST "Supply to Topside Floating Driver. The bootstrap capacitor CB is returned to this pin. Voltage swing at this pin is from INTVCC to VIN + INTVCC in stepdown applications. In non step-down topologies the voltage at this pin is (See Datasheet)", 8 VIN (power) "Main Supply Pin and the (+) Input to the Current Comparator. Must be closely decoupled to ground."

## LTC1624IS8#TRPBF
designator U?
High Efficiency N-Channel Switching Regulator Controller, 8-pin SOIC (S8-8), -40 to 85 degC, Pb-Free, Tape and Reel; Manufacturer: Linear Technology; PartNumber: LTC1624IS8#TRPBF; Number of Outputs: 1; PackageVersion: Rev. G, 03/2012; PackageReference: S8-8; PackageDescription: 8-Pin Plastic Small Outline (Narrow .150 Inch), Body 4.9 x 3.9 mm, Pitch 1.27 mm; Supplier 1: Digi-Key; Supplier Part Number 1: LTC1624IS8#TRPBF-ND; Supplier 2: Newark; Supplier Part Number 2: 56M2692; Packing: Tape and Reel; RoHS: TRUE; Mounting Technology: Surface Mount; ComponentLink1Description: Manufacturer URL; ComponentLink1URL: http://www.linear.com/; ComponentLink2Description: Datasheet; ComponentLink2URL: http://cds.linear.com/docs/en/datasheet/1624f.pdf; ComponentLink3Description: Package Specification; ComponentLink3URL: http://cds.linear.com/docs/en/packaging/05081610_G_SO8.pdf
footprint LT-S8-8_N (SOIC, 8-Leads, Body 5x4mm, Pitch 1.27mm, IPC Medium Density)
footprint LT-S8-8_L (SOIC, 8-Leads, Body 5x4mm, Pitch 1.27mm, IPC High Density)
footprint LT-S8-8_M (SOIC, 8-Leads, Body 5x4mm, Pitch 1.27mm, IPC Low Density)
pins: 1 SENSE- (in) "Connects to the (-) input for the current comparator. Built-in offsets between the SENSE - and VIN pins in conjunction with RSENSE set the current trip thresholds. Do not pull this pin more than 15V below VIN or more than 0.(See Datasheet)", 2 ITH/RUN (in), 3 VFB (in) "Receives the feedback voltage from an external resistive divider across the output.", 4 GND (power) "Ground. Connect to the (-) terminal of COUT, the Schottky diode and the (-) terminal of CIN.", 5 SW "Switch Node Connection to Inductor. In stepdown applications the voltage swing at this pin is from a Schottky diode (external) voltage drop below ground to VIN.", 6 TG (out) "High Current Gate Drive for Top N-Channel MOSFET. This is the output of a floating driver with a voltage swing equal to INTVCC superimposed on the switch node voltage SW.", 7 BOOST "Supply to Topside Floating Driver. The bootstrap capacitor CB is returned to this pin. Voltage swing at this pin is from INTVCC to VIN + INTVCC in stepdown applications. In non step-down topologies the voltage at this pin is (See Datasheet)", 8 VIN (power) "Main Supply Pin and the (+) Input to the Current Comparator. Must be closely decoupled to ground."

## LTC1625CGN
designator U?
No Rsense Current Mode Synchronous Step-Down Switching Regulator, 16-pin SOP (GN-16), 0 to 70 degC; Manufacturer: Linear Technology; PartNumber: LTC1625CGN; Number of Outputs: 1; PackageVersion: Rev. B, 03/2012; PackageReference: GN-16; PackageDescription: 16-Pin Plastic SSOP, Body 4.9 x 3.9 mm, Pitch 0.635 mm; Supplier 1: Digi-Key; Supplier Part Number 1: LTC1625CGN-ND; RoHS: FALSE; Mounting Technology: Surface Mount; ComponentLink1Description: Manufacturer URL; ComponentLink1URL: http://www.linear.com/; ComponentLink2Description: Datasheet; ComponentLink2URL: http://cds.linear.com/docs/en/datasheet/1625f.pdf; ComponentLink3Description: Package Specification; ComponentLink3URL: http://cds.linear.com/docs/en/packaging/05081641_B_GN16.pdf
footprint LT-GN-16_N (SOP, 16-Leads, Body 5x4mm, Pitch 0.635mm, IPC Medium Density)
footprint LT-GN-16_L (SOP, 16-Leads, Body 5x4mm, Pitch 0.635mm, IPC High Density)
footprint LT-GN-16_M (SOP, 16-Leads, Body 5x4mm, Pitch 0.635mm, IPC Low Density)
pins: 1 EXTVCC (power) "INTVCC Switch Input. When the EXTVCC voltage is above 4.7V, the switch closes and supplies INTVCC power from EXTVCC. Do not exceed 7V at this pin.", 2 SYNC (in) "Synchronization Input for Internal Oscillator. The oscillator will nominally run at 150kHz when open, 225kHz when tied above 1.2V, and will lock over a 1.5:1 clock frequency range.", 3 RUN/SS (in) "Run Control and Soft Start Input. A capacitor to ground at this pin sets the ramp time to full current output (approximately 1s/mF). Forcing this pin below 1.4V shuts down the device.", 4 FCB (in) "Forced Continuous Input. Tie this pin to ground to force synchronous operation at low load, to a resistive divider from the secondary output when using a secondary winding, or to INTVCC to enable Burst Mode operation at low (See Datasheet)", 5 ITH "Error Amplifier Compensation Point. The current comparator threshold increases with this control voltage. Nominal voltage range for this pin is 0V to 2.4V.", 6 SGND (power) "Signal Ground. Connect to the (-) terminal of COUT.", 7 VOSENSE (in) "Output Voltage Sense. Feedback input from the remotely sensed output voltage or from an external resistive divider across the output.", 8 VPROG (in) "Output Voltage Programming. When VOSENSE is connected to the output, VPROG < 0.8V selects a 3.3V output and VPROG > 3.5V selects a 5V output.", 9 PGND (power) "Driver Power Ground. Connects to the source of the bottom N-channel MOSFET, the (-) terminal of CVCC and the (-) terminal of CIN.", 10 BG (out) "Bottom Gate Drive. Drives the gate of the bottom N-channel MOSFET between ground and INTVCC.", 11 INTVCC (power) "Internal 5.2V Regulator Output. The driver and control circuits are powered from this voltage. Decouple this pin to power ground with a minimum of 4.7mF tantalum capacitance.", 12 BOOST "Topside Floating Driver Supply. The (+) terminal of the bootstrap capacitor connects here. This pin swings from a diode drop below INTVCC to VIN + INTVCC.", 13 TG (out) "Top Gate Drive. Drives the top N-channel MOSFET with a voltage swing equal to INTVCC minus a diode drop, superimposed on the switch node voltage.", 14 SW "Switch Node. The (-) terminal of the bootstrap capacitor connects here. This pin swings from a diode drop below ground up to VIN.", 15 TK (in) "Top MOSFET Kelvin Sense. MOSFET VDS sensing requires this pin to be routed to the drain of the top MOSFET separately from VIN.", 16 VIN (power) "Main Supply Input. Decouple this pin to ground with an RC filter (4.7ohm, 0.1uF) for applications above 3A."

## LTC1625CGN#PBF
designator U?
No Rsense Current Mode Synchronous Step-Down Switching Regulator, 16-pin SOP (GN-16), 0 to 70 degC, Pb-Free; Manufacturer: Linear Technology; PartNumber: LTC1625CGN#PBF; Number of Outputs: 1; PackageVersion: Rev. B, 03/2012; PackageReference: GN-16; PackageDescription: 16-Pin Plastic SSOP, Body 4.9 x 3.9 mm, Pitch 0.635 mm; Supplier 1: Digi-Key; Supplier Part Number 1: LTC1625CGN#PBF-ND; Supplier 2: Farnell; Supplier Part Number 2: 2115927; Supplier 3: Newark; Supplier Part Number 3: 56M2694; RoHS: TRUE; Mounting Technology: Surface Mount; ComponentLink1Description: Manufacturer URL; ComponentLink1URL: http://www.linear.com/; ComponentLink2Description: Datasheet; ComponentLink2URL: http://cds.linear.com/docs/en/datasheet/1625f.pdf; ComponentLink3Description: Package Specification; ComponentLink3URL: http://cds.linear.com/docs/en/packaging/05081641_B_GN16.pdf
footprint LT-GN-16_N (SOP, 16-Leads, Body 5x4mm, Pitch 0.635mm, IPC Medium Density)
footprint LT-GN-16_L (SOP, 16-Leads, Body 5x4mm, Pitch 0.635mm, IPC High Density)
footprint LT-GN-16_M (SOP, 16-Leads, Body 5x4mm, Pitch 0.635mm, IPC Low Density)
pins: 1 EXTVCC (power) "INTVCC Switch Input. When the EXTVCC voltage is above 4.7V, the switch closes and supplies INTVCC power from EXTVCC. Do not exceed 7V at this pin.", 2 SYNC (in) "Synchronization Input for Internal Oscillator. The oscillator will nominally run at 150kHz when open, 225kHz when tied above 1.2V, and will lock over a 1.5:1 clock frequency range.", 3 RUN/SS (in) "Run Control and Soft Start Input. A capacitor to ground at this pin sets the ramp time to full current output (approximately 1s/mF). Forcing this pin below 1.4V shuts down the device.", 4 FCB (in) "Forced Continuous Input. Tie this pin to ground to force synchronous operation at low load, to a resistive divider from the secondary output when using a secondary winding, or to INTVCC to enable Burst Mode operation at low (See Datasheet)", 5 ITH "Error Amplifier Compensation Point. The current comparator threshold increases with this control voltage. Nominal voltage range for this pin is 0V to 2.4V.", 6 SGND (power) "Signal Ground. Connect to the (-) terminal of COUT.", 7 VOSENSE (in) "Output Voltage Sense. Feedback input from the remotely sensed output voltage or from an external resistive divider across the output.", 8 VPROG (in) "Output Voltage Programming. When VOSENSE is connected to the output, VPROG < 0.8V selects a 3.3V output and VPROG > 3.5V selects a 5V output.", 9 PGND (power) "Driver Power Ground. Connects to the source of the bottom N-channel MOSFET, the (-) terminal of CVCC and the (-) terminal of CIN.", 10 BG (out) "Bottom Gate Drive. Drives the gate of the bottom N-channel MOSFET between ground and INTVCC.", 11 INTVCC (power) "Internal 5.2V Regulator Output. The driver and control circuits are powered from this voltage. Decouple this pin to power ground with a minimum of 4.7mF tantalum capacitance.", 12 BOOST "Topside Floating Driver Supply. The (+) terminal of the bootstrap capacitor connects here. This pin swings from a diode drop below INTVCC to VIN + INTVCC.", 13 TG (out) "Top Gate Drive. Drives the top N-channel MOSFET with a voltage swing equal to INTVCC minus a diode drop, superimposed on the switch node voltage.", 14 SW "Switch Node. The (-) terminal of the bootstrap capacitor connects here. This pin swings from a diode drop below ground up to VIN.", 15 TK (in) "Top MOSFET Kelvin Sense. MOSFET VDS sensing requires this pin to be routed to the drain of the top MOSFET separately from VIN.", 16 VIN (power) "Main Supply Input. Decouple this pin to ground with an RC filter (4.7ohm, 0.1uF) for applications above 3A."